# EAGLE library part ARDUCOPTER2.8 (library parts)
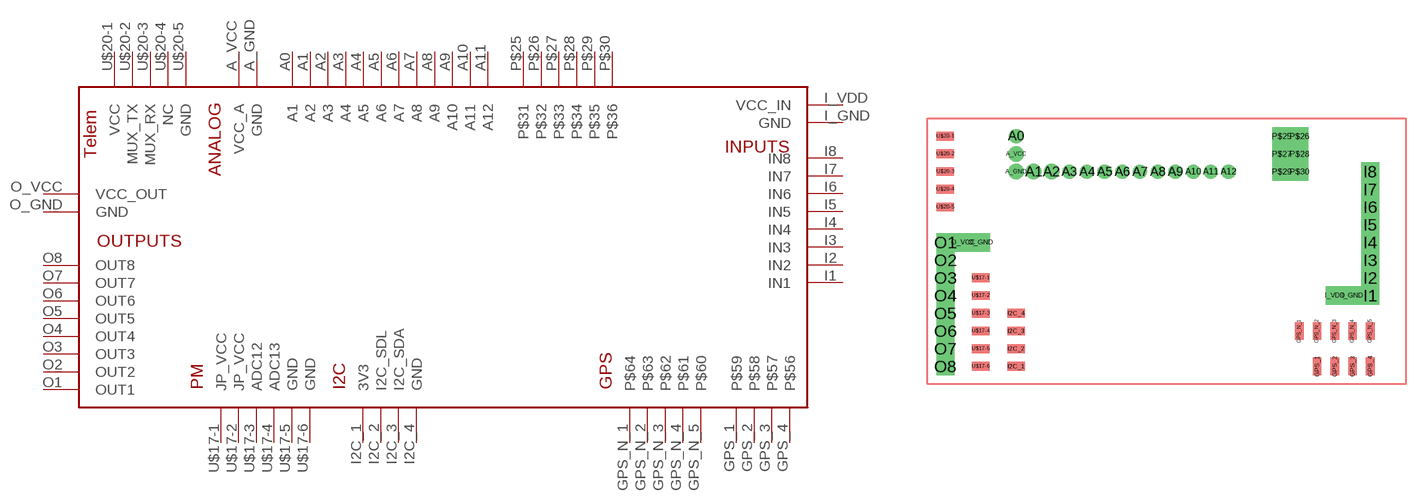
[diagram p0: symbol with the pads of ARDUCOPTER2.8; footprint ARDUCOPTER2.8]

Designator prefix -

## ARDUCOPTER2.8  [ARDUCOPTER2.8]
A0  A1
A1  A2
A2  A3
A3  A4
A4  A5
A5  A6
A6  A7
A7  A8
A8  A9
A9  A10
A10  A11
A11  A12
A_GND  GND
A_VCC  VCC_A
GPS_1  P$59
GPS_2  P$58
GPS_3  P$57
GPS_4  P$56
GPS_N_1  P$64
GPS_N_2  P$63
GPS_N_3  P$62
GPS_N_4  P$61
GPS_N_5  P$60
I1  IN1
I2  IN2
I2C_1  3V3
I2C_2  I2C_SDL
I2C_3  I2C_SDA
I2C_4  GND
I3  IN3
I4  IN4
I5  IN5
I6  IN6
I7  IN7
I8  IN8
I_GND  GND
I_VDD  VCC_IN
O1  OUT1
O2  OUT2
O3  OUT3
O4  OUT4
O5  OUT5
O6  OUT6
O7  OUT7
O8  OUT8
O_GND  GND
O_VCC  VCC_OUT
P$25  P$31
P$26  P$32
P$27  P$33
P$28  P$34
P$29  P$35
P$30  P$36
U$17-1  JP_VCC
U$17-2  JP_VCC
U$17-3  ADC12
U$17-4  ADC13
U$17-5  GND
U$17-6  GND
U$20-1  VCC
U$20-2  MUX_TX
U$20-3  MUX_RX
U$20-4  NC
U$20-5  GND

## Footprint ARDUCOPTER2.8 (pad centres in mm)
drill 0.5 pad 1.016: A0 -8.89,8.89
drill 0.6: A1 -7.62,6.35; A2 -6.35,6.35; A_GND -8.89,6.35; A_VCC -8.89,7.62
drill 0.5: A3 -5.08,6.35; A4 -3.81,6.35; A5 -2.54,6.35; A6 -1.27,6.35; A7 0,6.35; A8 1.27,6.35; A9 2.54,6.35; A10 3.81,6.35; A11 5.08,6.35; A12 6.35,6.35
smd 0.635 x 1.27: GPS_1 12.7,-7.62; GPS_2 13.97,-7.62; GPS_3 15.24,-7.62; GPS_4 16.51,-7.62; GPS_N_1 11.43,-5.08; GPS_N_2 12.7,-5.08; GPS_N_3 13.97,-5.08; GPS_N_4 15.24,-5.08; GPS_N_5 16.51,-5.08
drill 0.8 square: I1 16.51,-2.54; I2 16.51,-1.27; I3 16.51,0; I4 16.51,1.27; I5 16.51,2.54; I6 16.51,3.81; I7 16.51,5.08; I8 16.51,6.35; I_GND 15.24,-2.54; I_VDD 13.97,-2.54; O1 -13.97,1.27; O2 -13.97,0; O3 -13.97,-1.27; O4 -13.97,-2.54; O5 -13.97,-3.81; O6 -13.97,-5.08; O7 -13.97,-6.35; O8 -13.97,-7.62; O_GND -11.43,1.27; O_VCC -12.7,1.27; P$25 10.16,8.89; P$26 11.43,8.89; P$27 10.16,7.62; P$28 11.43,7.62; P$29 10.16,6.35; P$30 11.43,6.35
smd 1.27 x 0.635: I2C_1 -8.89,-7.62; I2C_2 -8.89,-6.35; I2C_3 -8.89,-5.08; I2C_4 -8.89,-3.81; U$17-1 -11.43,-1.27; U$17-2 -11.43,-2.54; U$17-3 -11.43,-3.81; U$17-4 -11.43,-5.08; U$17-5 -11.43,-6.35; U$17-6 -11.43,-7.62; U$20-1 -13.97,8.89; U$20-2 -13.97,7.62; U$20-3 -13.97,6.35; U$20-4 -13.97,5.08; U$20-5 -13.97,3.81